# Altium schematic symbol library TPS3106.SchLib: 1 symbol
Pins are listed as number, name and electrical type; pins without a type are passive.

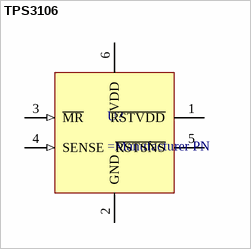
[diagram p0: symbol TPS3106]

## TPS3106
designator U?
Power On Reset IC
pins: 1 ~{RSTVDD} (oc), 2 GND (power), 3 ~{MR} (in), 4 SENSE (in), 5 ~{RSTSNS} (oc), 6 VDD (power)